# Altium schematic symbol library Schlib1.SchLib: 1 symbol
Pins are listed as number, name and electrical type; pins without a type are passive.

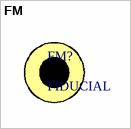
[diagram p0: symbol FM]

## FM
designator FM?, comment FIDUCIAL
footprint FIDUCIAL